# EAGLE library part M-06174_LCMXO2-7000HE-B-EVN (library Akizuki)
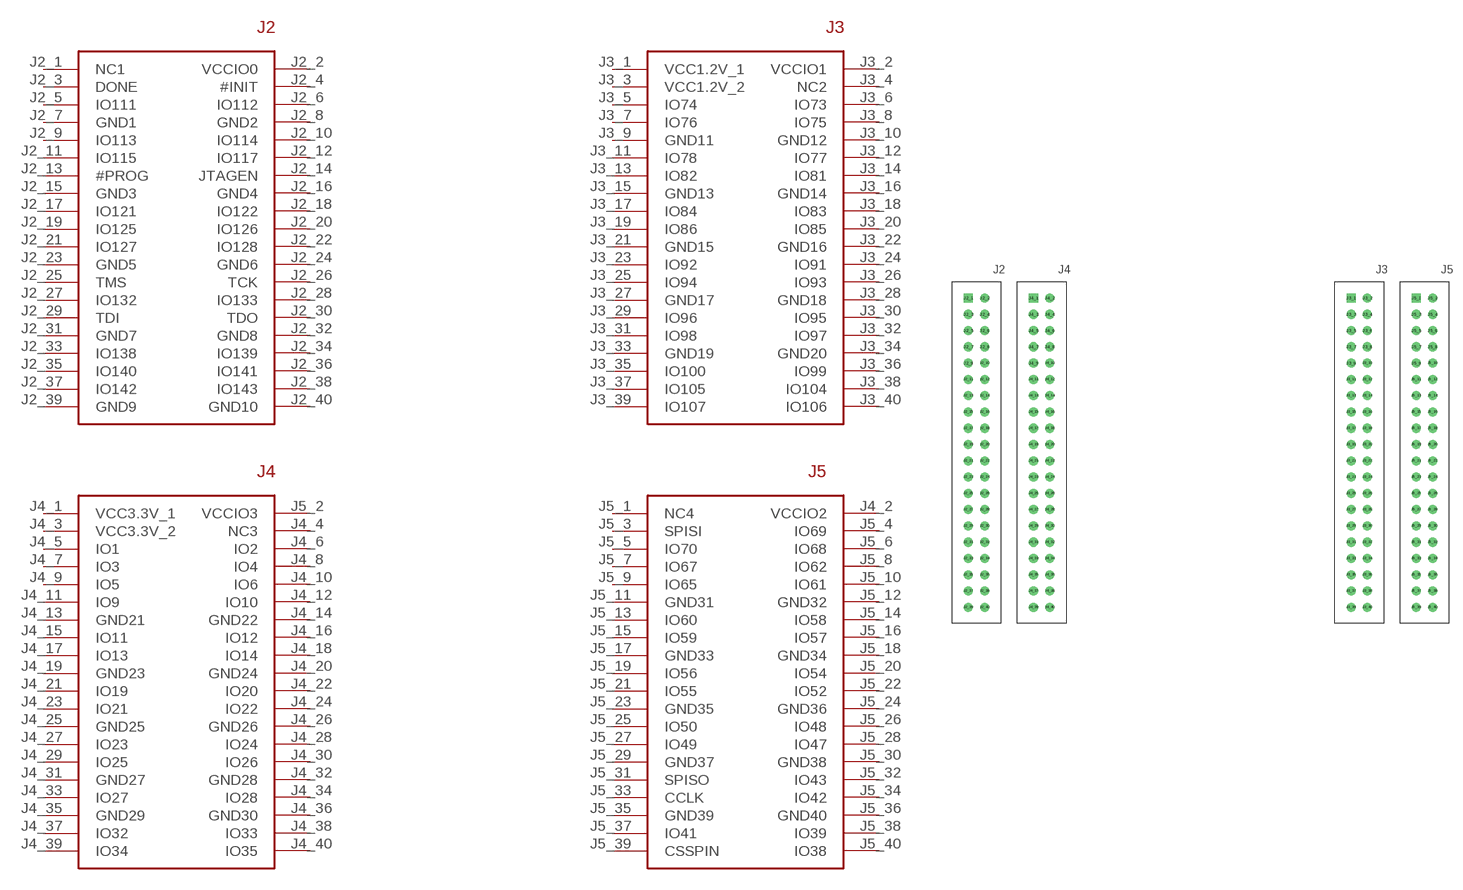
[diagram p19: symbol with the pads of LCMXO2-7000HE-B-EVN; footprint LCMXO2-7000HE-B-EVN]

Designator prefix -

## M-06174_LCMXO2-7000HE-B-EVN  [LCMXO2-7000HE-B-EVN]
J2_1  NC1
J2_2  VCCIO0
J2_3  DONE
J2_4  #INIT
J2_5  IO111
J2_6  IO112
J2_7  GND1
J2_8  GND2
J2_9  IO113
J2_10  IO114
J2_11  IO115
J2_12  IO117
J2_13  #PROG
J2_14  JTAGEN
J2_15  GND3
J2_16  GND4
J2_17  IO121
J2_18  IO122
J2_19  IO125
J2_20  IO126
J2_21  IO127
J2_22  IO128
J2_23  GND5
J2_24  GND6
J2_25  TMS
J2_26  TCK
J2_27  IO132
J2_28  IO133
J2_29  TDI
J2_30  TDO
J2_31  GND7
J2_32  GND8
J2_33  IO138
J2_34  IO139
J2_35  IO140
J2_36  IO141
J2_37  IO142
J2_38  IO143
J2_39  GND9
J2_40  GND10
J3_1  VCC1.2V_1
J3_2  VCCIO1
J3_3  VCC1.2V_2
J3_4  NC2
J3_5  IO74
J3_6  IO73
J3_7  IO76
J3_8  IO75
J3_9  GND11
J3_10  GND12
J3_11  IO78
J3_12  IO77
J3_13  IO82
J3_14  IO81
J3_15  GND13
J3_16  GND14
J3_17  IO84
J3_18  IO83
J3_19  IO86
J3_20  IO85
J3_21  GND15
J3_22  GND16
J3_23  IO92
J3_24  IO91
J3_25  IO94
J3_26  IO93
J3_27  GND17
J3_28  GND18
J3_29  IO96
J3_30  IO95
J3_31  IO98
J3_32  IO97
J3_33  GND19
J3_34  GND20
J3_35  IO100
J3_36  IO99
J3_37  IO105
J3_38  IO104
J3_39  IO107
J3_40  IO106
J4_1  VCC3.3V_1
J4_2  VCCIO2
J4_3  VCC3.3V_2
J4_4  NC3
J4_5  IO1
J4_6  IO2
J4_7  IO3
J4_8  IO4
J4_9  IO5
J4_10  IO6
J4_11  IO9
J4_12  IO10
J4_13  GND21
J4_14  GND22
J4_15  IO11
J4_16  IO12
J4_17  IO13
J4_18  IO14
J4_19  GND23
J4_20  GND24
J4_21  IO19
J4_22  IO20
J4_23  IO21
J4_24  IO22
J4_25  GND25
J4_26  GND26
J4_27  IO23
J4_28  IO24
J4_29  IO25
J4_30  IO26
J4_31  GND27
J4_32  GND28
J4_33  IO27
J4_34  IO28
J4_35  GND29
J4_36  GND30
J4_37  IO32
J4_38  IO33
J4_39  IO34
J4_40  IO35
J5_1  NC4
J5_2  VCCIO3
J5_3  SPISI
J5_4  IO69
J5_5  IO70
J5_6  IO68
J5_7  IO67
J5_8  IO62
J5_9  IO65
J5_10  IO61
J5_11  GND31
J5_12  GND32
J5_13  IO60
J5_14  IO58
J5_15  IO59
J5_16  IO57
J5_17  GND33
J5_18  GND34
J5_19  IO56
J5_20  IO54
J5_21  IO55
J5_22  IO52
J5_23  GND35
J5_24  GND36
J5_25  IO50
J5_26  IO48
J5_27  IO49
J5_28  IO47
J5_29  GND37
J5_30  GND38
J5_31  SPISO
J5_32  IO43
J5_33  CCLK
J5_34  IO42
J5_35  GND39
J5_36  GND40
J5_37  IO41
J5_38  IO39
J5_39  CSSPIN
J5_40  IO38

## Footprint LCMXO2-7000HE-B-EVN (pad centres in mm)
drill 0.8 pad 1.422 square: J2_1 0,53.34; J3_1 59.69,53.34; J4_1 10.16,53.34; J5_1 69.85,53.34
drill 0.8 pad 1.422: J2_2 2.54,53.34; J2_3 0,50.8; J2_4 2.54,50.8; J2_5 0,48.26; J2_6 2.54,48.26; J2_7 0,45.72; J2_8 2.54,45.72; J2_9 0,43.18; J2_10 2.54,43.18; J2_11 0,40.64; J2_12 2.54,40.64; J2_13 0,38.1; J2_14 2.54,38.1; J2_15 0,35.56; J2_16 2.54,35.56; J2_17 0,33.02; J2_18 2.54,33.02; J2_19 0,30.48; J2_20 2.54,30.48; J2_21 0,27.94; J2_22 2.54,27.94; J2_23 0,25.4; J2_24 2.54,25.4; J2_25 0,22.86; J2_26 2.54,22.86; J2_27 0,20.32; J2_28 2.54,20.32; J2_29 0,17.78; J2_30 2.54,17.78; J2_31 0,15.24; J2_32 2.54,15.24; J2_33 0,12.7; J2_34 2.54,12.7; J2_35 0,10.16; J2_36 2.54,10.16; J2_37 0,7.62; J2_38 2.54,7.62; J2_39 0,5.08; J2_40 2.54,5.08; J3_2 62.23,53.34; J3_3 59.69,50.8; J3_4 62.23,50.8; J3_5 59.69,48.26; J3_6 62.23,48.26; J3_7 59.69,45.72; J3_8 62.23,45.72; J3_9 59.69,43.18; J3_10 62.23,43.18; J3_11 59.69,40.64; J3_12 62.23,40.64; J3_13 59.69,38.1; J3_14 62.23,38.1; J3_15 59.69,35.56; J3_16 62.23,35.56; J3_17 59.69,33.02; J3_18 62.23,33.02; J3_19 59.69,30.48; J3_20 62.23,30.48; J3_21 59.69,27.94; J3_22 62.23,27.94; J3_23 59.69,25.4; J3_24 62.23,25.4; J3_25 59.69,22.86; J3_26 62.23,22.86; J3_27 59.69,20.32; J3_28 62.23,20.32; J3_29 59.69,17.78; J3_30 62.23,17.78; J3_31 59.69,15.24; J3_32 62.23,15.24; J3_33 59.69,12.7; J3_34 62.23,12.7; J3_35 59.69,10.16; J3_36 62.23,10.16; J3_37 59.69,7.62; J3_38 62.23,7.62; J3_39 59.69,5.08; J3_40 62.23,5.08; J4_2 12.7,53.34; J4_3 10.16,50.8; J4_4 12.7,50.8; J4_5 10.16,48.26; J4_6 12.7,48.26; J4_7 10.16,45.72; J4_8 12.7,45.72; J4_9 10.16,43.18; J4_10 12.7,43.18; J4_11 10.16,40.64; J4_12 12.7,40.64; J4_13 10.16,38.1; J4_14 12.7,38.1; J4_15 10.16,35.56; J4_16 12.7,35.56; J4_17 10.16,33.02; J4_18 12.7,33.02; J4_19 10.16,30.48; J4_20 12.7,30.48; J4_21 10.16,27.94; J4_22 12.7,27.94; J4_23 10.16,25.4; J4_24 12.7,25.4; J4_25 10.16,22.86; J4_26 12.7,22.86; J4_27 10.16,20.32; J4_28 12.7,20.32; J4_29 10.16,17.78; J4_30 12.7,17.78; J4_31 10.16,15.24; J4_32 12.7,15.24; J4_33 10.16,12.7; J4_34 12.7,12.7; J4_35 10.16,10.16; J4_36 12.7,10.16; J4_37 10.16,7.62; J4_38 12.7,7.62; J4_39 10.16,5.08; J4_40 12.7,5.08; J5_2 72.39,53.34; J5_3 69.85,50.8; J5_4 72.39,50.8; J5_5 69.85,48.26; J5_6 72.39,48.26; J5_7 69.85,45.72; J5_8 72.39,45.72; J5_9 69.85,43.18; J5_10 72.39,43.18; J5_11 69.85,40.64; J5_12 72.39,40.64; J5_13 69.85,38.1; J5_14 72.39,38.1; J5_15 69.85,35.56; J5_16 72.39,35.56; J5_17 69.85,33.02; J5_18 72.39,33.02; J5_19 69.85,30.48; J5_20 72.39,30.48; J5_21 69.85,27.94; J5_22 72.39,27.94; J5_23 69.85,25.4; J5_24 72.39,25.4; J5_25 69.85,22.86; J5_26 72.39,22.86; J5_27 69.85,20.32; J5_28 72.39,20.32; J5_29 69.85,17.78; J5_30 72.39,17.78; J5_31 69.85,15.24; J5_32 72.39,15.24; J5_33 69.85,12.7; J5_34 72.39,12.7; J5_35 69.85,10.16; J5_36 72.39,10.16; J5_37 69.85,7.62; J5_38 72.39,7.62; J5_39 69.85,5.08; J5_40 72.39,5.08